# EAGLE library part AD621 (library parts)
AD627 - RtR InAMP
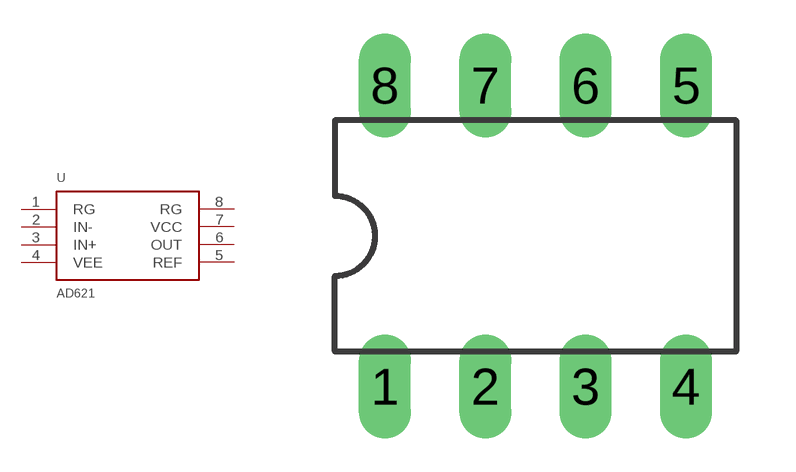
[diagram p0: symbol with the pads of DIL08; footprint DIL08]

Designator prefix U

## AD621  [DIL08]
1  RG
2  IN-
3  IN+
4  VEE
5  REF
6  OUT
7  VCC
8  RG

## Footprint DIL08 (pad centres in mm)
Dual In Line Package
drill 0.813 long: 1 -3.81,-3.81; 2 -1.27,-3.81; 3 1.27,-3.81; 4 3.81,-3.81; 5 3.81,3.81; 6 1.27,3.81; 7 -1.27,3.81; 8 -3.81,3.81